# Altium integrated library Infineon_Power_Supply_Voltage_Regulator.IntLib: 346 symbols (part 1 of 16)
Pins are listed as number, name and electrical type; pins without a type are passive.

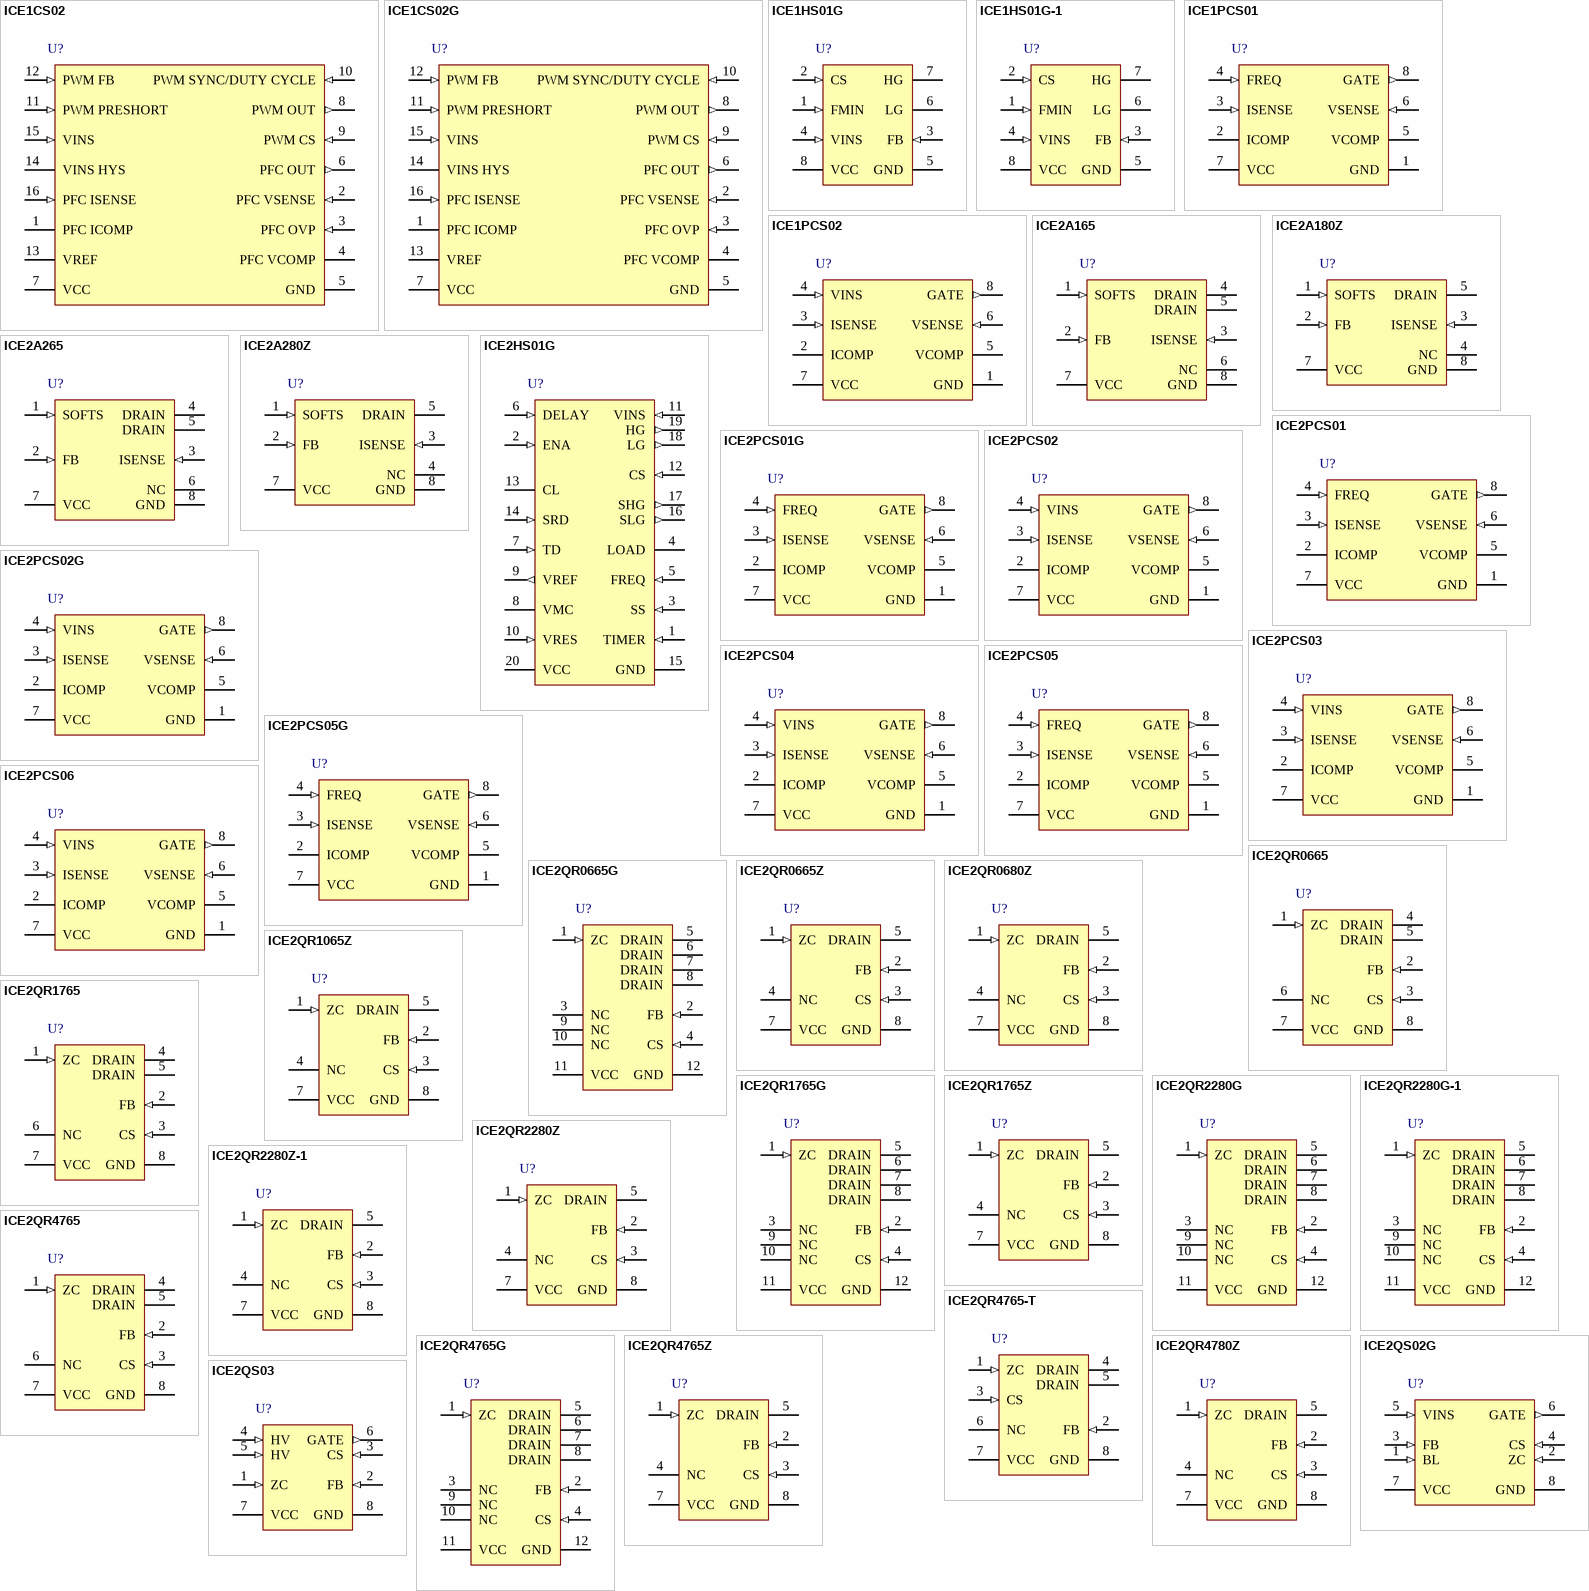
[diagram p0: symbols ICE1CS02 to ICE2QS03]

## ICE1CS02
designator U?
Combi PFC / PWM Controller, -40 to 150 degC, PG-DSO-16-17, Green; Manufacturer: Infineon; PartNumber: ICE1CS02; Green: TRUE; ICC (max): 22 mA; Output: PWM+PFC Gate Driver; VCC (max): 26 V; VCC (min): 11 V; DatasheetVersion: Rev. 1.0; PackageVersion: Jul-08; PackageReference: PG-DSO-16-17; PackageDescription: 16-Pin Plastic (Green) Dual Small Outline Package, 3.9x 9.9 mm Body, 1.27 mm Pitch; Supplier 1: Mouser; Supplier Part Number 1: 726-ICE1CS02; Supplier 2: Digi-Key; Supplier Part Number 2: ICE1CS02-ND; Halogen-free: FALSE; Mounting Technology: Surface Mount; ComponentLink1Description: Manufacturer URL; ComponentLink1URL: http://www.infineon.com/; ComponentLink2Description: Datasheet; ComponentLink2URL: http://www.infineon.com/dgdl/ICE1CS02_PFC_OVP_29JUL2008_1.0.pdf?folderId=db3a304412b407950112b4182a3d24f8&fileId=db3a30431c69a49d011c8e917a2d0494; ComponentLink3Description: Package Specification; ComponentLink3URL: http://www.infineon.com/dgdl/ICE1CS02_PFC_OVP_29JUL2008_1.0.pdf?folderId=db3a304412b407950112b4182a3d24f8&fileId=db3a30431c69a49d011c8e917a2d0494
footprint INF-PG-DSO-16-17_N (SOIC, 16-Leads, Body 9.9x3.9mm, Pitch 1.27mm, IPC Medium Density)
footprint INF-PG-DSO-16-17_L (SOIC, 16-Leads, Body 9.9x3.9mm, Pitch 1.27mm, IPC High Density)
footprint INF-PG-DSO-16-17_M (SOIC, 16-Leads, Body 9.9x3.9mm, Pitch 1.27mm, IPC Low Density)
pins: 1 PFC ICOMP "Current Loop Compensation", 2 PFC VSENSE (in) "VBUS Sense Input", 3 PFC OVP (in) "VBUS Overvoltage Sense Input", 4 PFC VCOMP "Voltage Loop Compensation", 5 GND (power) "Controller Ground", 6 PFC OUT (out) "GATE OUT", 7 VCC (power) "Controller Supply Voltage", 8 PWM OUT (out) "GATE OUT", 9 PWM CS (in) "Current Sense", 10 PWM SYNC/DUTY CYCLE (in) "Dual function pin: SYNC and Duty Cycle Setting", 11 PWM PRESHORT (in) "Adjustable Blanking Time Input", 12 PWM FB (in) "Feedback", 13 VREF (power) "5V reference voltage", 14 VINS HYS (power) "Input Voltage Hystersis", 15 VINS (in) "Input Voltage Brown out", 16 PFC ISENSE (in) "Current Sense Input"

## ICE1CS02G
designator U?
Combi PFC / PWM Controller, -40 to 150 degC, PG-DSO-16-17, Green; Manufacturer: Infineon; PartNumber: ICE1CS02G; Green: TRUE; ICC (max): 22 mA; Output: PWM+PFC Gate Driver; VCC (max): 26 V; VCC (min): 11 V; DatasheetVersion: Rev. 1.0; PackageVersion: Jul-08; PackageReference: PG-DSO-16-17; PackageDescription: 16-Pin Plastic (Green) Dual Small Outline Package, 3.9x 9.9 mm Body, 1.27 mm Pitch; Supplier 1: Mouser; Supplier Part Number 1: 726-ICE1CS02G; Supplier 2: Digi-Key; Supplier Part Number 2: ICE1CS02G-ND; Halogen-free: FALSE; Mounting Technology: Surface Mount; ComponentLink1Description: Manufacturer URL; ComponentLink1URL: http://www.infineon.com/; ComponentLink2Description: Datasheet; ComponentLink2URL: http://www.infineon.com/dgdl/ICE1CS02_PFC_OVP_29JUL2008_1.0.pdf?folderId=db3a304412b407950112b4182a3d24f8&fileId=db3a30431c69a49d011c8e917a2d0494; ComponentLink3Description: Package Specification; ComponentLink3URL: http://www.infineon.com/dgdl/ICE1CS02_PFC_OVP_29JUL2008_1.0.pdf?folderId=db3a304412b407950112b4182a3d24f8&fileId=db3a30431c69a49d011c8e917a2d0494
footprint INF-PG-DSO-16-17_N (SOIC, 16-Leads, Body 9.9x3.9mm, Pitch 1.27mm, IPC Medium Density)
footprint INF-PG-DSO-16-17_L (SOIC, 16-Leads, Body 9.9x3.9mm, Pitch 1.27mm, IPC High Density)
footprint INF-PG-DSO-16-17_M (SOIC, 16-Leads, Body 9.9x3.9mm, Pitch 1.27mm, IPC Low Density)
pins: 1 PFC ICOMP "Current Loop Compensation", 2 PFC VSENSE (in) "VBUS Sense Input", 3 PFC OVP (in) "VBUS Overvoltage Sense Input", 4 PFC VCOMP "Voltage Loop Compensation", 5 GND (power) "Controller Ground", 6 PFC OUT (out) "GATE OUT", 7 VCC (power) "Controller Supply Voltage", 8 PWM OUT (out) "GATE OUT", 9 PWM CS (in) "Current Sense", 10 PWM SYNC/DUTY CYCLE (in) "Dual function pin: SYNC and Duty Cycle Setting", 11 PWM PRESHORT (in) "Adjustable Blanking Time Input", 12 PWM FB (in) "Feedback", 13 VREF (power) "5V reference voltage", 14 VINS HYS (power) "Input Voltage Hystersis", 15 VINS (in) "Input Voltage Brown out", 16 PFC ISENSE (in) "Current Sense Input"

## ICE1HS01G
designator U?
Half-Bridge Resonant Controller, 10.2 to 18 V, -25 to 125 degC, PG-DSO-8, Reel, Green; Manufacturer: Infineon; PartNumber: ICE1HS01G; Brown out protection: TRUE; fSW (typ): 600 kHz; Group: DSO-8; IGATE(max): 1.5 A; IGATE(min): 1 A; Output: 2; VCC (max): 18 V; VCC (min): 10.2 V; DatasheetVersion: Rev. 2.0; PackageReference: PG-DSO-8_B; PackageDescription: 8-Pin Plastic (Green) Dual Small Outline Package, 4.91 x 3.96 mm Body, 1.27 mm Pitch; Supplier 1: Mouser; Supplier Part Number 1: 726-ICE1HS01G; Supplier 2: Digi-Key; Supplier Part Number 2: ICE1HS01G-ND; Green: TRUE; OCP: TRUE; OLP: TRUE; Packing: Reel; Softstart: TRUE; Mounting Technology: Surface Mount; ComponentLink1Description: Manufacturer URL; ComponentLink1URL: http://www.infineon.com/; ComponentLink2Description: Datasheet; ComponentLink2URL: http://www.infineon.com/dgdl/Datasheet_ICE1HS01G_v2.0_20090824.pdf?folderId=db3a3043156fd5730115da1adffb1528&fileId=db3a304327b8975001281ab6d8201a99; ComponentLink3Description: Package Specification; ComponentLink3URL: http://www.infineon.com/dgdl/Datasheet_ICE1HS01G_v2.0_20090824.pdf?folderId=db3a3043156fd5730115da1adffb1528&fileId=db3a304327b8975001281ab6d8201a99
footprint INF-PG-DSO-8_B_N (SOP, 8-Leads, Body 4.91x3.96mm, Pitch 1.27mm, IPC Medium Density)
footprint INF-PG-DSO-8_B_L (SOP, 8-Leads, Body 4.91x3.96mm, Pitch 1.27mm, IPC High Density)
footprint INF-PG-DSO-8_B_M (SOP, 8-Leads, Body 4.91x3.96mm, Pitch 1.27mm, IPC Low Density)
pins: 1 FMIN (in) "An external resistor is connected between this pin and the ground. The voltage of this pin is constant during operation and thus the resistance determines the current flowing out of this pin. The minimum switching frequency (See Datasheet)", 2 CS (in) "The current sense signal is fed to this pin. Inside the IC, two comparators are provided. If the voltage on CS pin is higher than the first threshold, IC will increase the switching frequency to limit the maximum output (See Datasheet)", 3 FB (in) "This pin is connected to the collector of the optocoupler. Internally, during normal operation, this pin is connected to reference voltage source with a pull-up resistor(RFB). The IC uses the voltage on this pin to adjust (See Datasheet)", 4 VINS (in) "The mains input voltage is fed to this pin via a resistive voltage divider. If the voltage on VINS pin is higher than the threshold VINSON, IC will start to operate with softstart when VCC increases beyond turn on threshold. (See Datasheet)", 5 GND (power) "IC common ground.", 6 LG (power) "Low side power MOSFET driver.", 7 HG (power) "Up side power MOSFET driver.", 8 VCC (power) "Supply voltage of the IC."

## ICE1HS01G-1
designator U?
Half-Bridge Resonant Controller, 10.2 to 18 V, -25 to 125 degC, PG-DSO-8-16, Reel, Green; Manufacturer: Infineon; PartNumber: ICE1HS01G-1; Brown out protection: TRUE; fSW (typ): 600 kHz; Group: DSO-8; IGATE(max): 1.5 A; IGATE(min): 1 A; Output: 2; VCC (max): 18 V; VCC (min): 10.2 V; DatasheetVersion: Rev. 2.0; PackageVersion: Mar-07; PackageReference: PG-DSO-8-16; PackageDescription: 8-Pin Plastic (Green) Dual Small Outline Package, 4.9 x 3.9 mm Body, 1.27 mm Pitch; OCP: TRUE; OLP: TRUE; Softstart: TRUE; Mounting Technology: Surface Mount; ComponentLink1Description: Manufacturer URL; ComponentLink1URL: http://www.infineon.com/; ComponentLink2Description: Datasheet; ComponentLink2URL: http://www.infineon.com/dgdl/Datasheet_ICE1HS01G-1_v20_20110704.pdf?folderId=db3a30431f848401011fcbf221ff04c3&fileId=db3a3043382e837301383116a3354a93; ComponentLink3Description: Package Specification; ComponentLink3URL: http://www.infineon.com/dgdl/TLE7259-2GE_DS_rev12.pdf?folderId=db3a3043163797a6011666d32a0c0de1&fileId=db3a3043163797a6011666d4dbb80de2&location=en.Products.Automotive_ICs.Automotive_Transceivers.LIN_Transceivers.DATASHEET.TLE7259-2GE_DS_rev12.pdf
footprint INF-PG-DSO-8-16_N (SOP, 8-Leads, Body 4.9x3.9mm, Pitch 1.27mm, IPC Medium Density)
footprint INF-PG-DSO-8-16_L (SOP, 8-Leads, Body 4.9x3.9mm, Pitch 1.27mm, IPC High Density)
footprint INF-PG-DSO-8-16_M (SOP, 8-Leads, Body 4.9x3.9mm, Pitch 1.27mm, IPC Low Density)
pins: 1 FMIN (in) "Minimum switching frequency", 2 CS (in) "Current sense", 3 FB (in) "Feedback voltage", 4 VINS (in) "Input voltage sense", 5 GND (power) "IC ground", 6 LG (power) "Low side gate drive", 7 HG (power) "High side gate drive", 8 VCC (power) "IC power supply"

## ICE1PCS01
designator U?
Standalone Power Factor Correction (PFC) Controller in Continuous Conduction Mode (CCM), -40 to 125 degC, PG-DIP-8-4, Tube, Green; Manufacturer: Infineon; PartNumber: ICE1PCS01; Green: TRUE; ICC (max): 22.5 mA; IQ (max): -1.5 A / 1.5 A; Output: MOSFET Gate Driver; VCC (max): 21 V; VCC (min): 10.2 V; DatasheetVersion: Rev. 1.3; PackageVersion: Jul-07; PackageReference: PG-DIP-8-4; PackageDescription: 8-Pin Plastic (Green) Dual In-Line Package, 9.52 x 6.35 mm Body, 2.54 mm Pitch; Supplier 1: Mouser; Supplier Part Number 1: 726-ICE1PCS01; Supplier 2: Digi-Key; Supplier Part Number 2: ICE1PCS01-ND; Halogen-free: FALSE; Packing: Tube; Mounting Technology: Through Hole; ComponentLink1Description: Manufacturer URL; ComponentLink1URL: http://www.infineon.com/; ComponentLink2Description: Datasheet; ComponentLink2URL: http://www.infineon.com/dgdl/DS+ICE1PCS01_v1.3+Feb+2007.pdf?folderId=db3a304412b407950112b4182a3d24f8&fileId=db3a304412b407950112b427c6f13cc7; ComponentLink3Description: Package Specification; ComponentLink3URL: http://www.infineon.com/dgdl/DS+ICE1PCS01_v1.3+Feb+2007.pdf?folderId=db3a304412b407950112b4182a3d24f8&fileId=db3a304412b407950112b427c6f13cc7
footprint INF-PG-DIP-8-4 (DIP, 8-Leads, Body 9.52x6.35mm, Pitch 2.54mm)
pins: 1 GND (power) "IC Ground", 2 ICOMP "Current Loop Compensation", 3 ISENSE (in) "Current Sense Input", 4 FREQ (in) "Switching Frequency Setting", 5 VCOMP "Voltage Loop Compensation", 6 VSENSE (in) "VOUT Sense (Feedback) Input", 7 VCC (power) "IC Supply Voltage", 8 GATE (out) "Gate Drive Output"

## ICE1PCS02
designator U?
Standalone Power Factor Correction (PFC) Controller in Continuous Conduction Mode (CCM) with Input Brown-Out Protection, -40 to 125 degC, PG-DIP-8-4, Tube, Green; Manufacturer: Infineon; PartNumber: ICE1PCS02; Green: TRUE; ICC (max): 16.3 mA; IQ (max): -1.5 A / 1.5 A; Output: MOSFET Gate Driver; VCC (max): 21 V; VCC (min): 10.2 V; DatasheetVersion: Rev. 1.2; PackageVersion: Jul-07; PackageReference: PG-DIP-8-4; PackageDescription: 8-Pin Plastic (Green) Dual In-Line Package, 9.52 x 6.35 mm Body, 2.54 mm Pitch; Supplier 1: Mouser; Supplier Part Number 1: 726-ICE1PCS02; Supplier 2: Digi-Key; Supplier Part Number 2: ICE1PCS02-ND; Halogen-free: FALSE; Packing: Tube; Mounting Technology: Through Hole; ComponentLink1Description: Manufacturer URL; ComponentLink1URL: http://www.infineon.com/; ComponentLink2Description: Datasheet; ComponentLink2URL: http://www.infineon.com/dgdl/DS+ICE1PCS02_v1.2+Feb+2007.pdf?folderId=db3a304412b407950112b408e8c90004&fileId=db3a304412b407950112b427c9283ccb; ComponentLink3Description: Package Specification; ComponentLink3URL: http://www.infineon.com/dgdl/DS+ICE1PCS01_v1.3+Feb+2007.pdf?folderId=db3a304412b407950112b4182a3d24f8&fileId=db3a304412b407950112b427c6f13cc7
footprint INF-PG-DIP-8-4 (DIP, 8-Leads, Body 9.52x6.35mm, Pitch 2.54mm)
pins: 1 GND (power) "IC Ground", 2 ICOMP "Current Loop Compensation", 3 ISENSE (in) "Current Sense Input", 4 VINS (in) "Brown-out Sense Input", 5 VCOMP "Voltage Loop Compensation", 6 VSENSE (in) "VOUT Sense (Feedback) Input", 7 VCC (power) "IC Supply Voltage", 8 GATE (out) "Gate Drive Output"

## ICE2A165
designator U?
Off-Line SMPS Current Mode Controller with Integrated 650 V CoolMOS(TM), -25 to 130 degC, PG-DIP-8, Tube, Green; Manufacturer: Infineon; PartNumber: ICE2A165; ESD Protection (max): 2 kV; Frequency ( f ) Range: 21.5 to 100 kHz; Green: TRUE; Green Product: Lead Free; ICC (typ): 6.5 mA; PIN (max): 18 W; RthJA (max): 90 K/W; tf (typ): 30 ns; VCC (max): 21 V; VCC (min): 8.5 V; VDS (max): 650 V; DatasheetVersion: Rev. 2.10a; PackageVersion: Rev. 02, 05/2012; PackageReference: PG-DIP-8_A; PackageDescription: 8-Pin Plastic (Green) Dual In-Line Package, 9.44 x 6.35 mm Body, 2.54 mm Pitch; Supplier 1: Digi-Key; Supplier Part Number 1: ICE2A165IN-ND; Supplier 2: Mouser; Supplier Part Number 2: 726-ICE2A165; Halogen-free: TRUE; Mounting: THT; Packing: Tube; tr (typ): 30 ns; Mounting Technology: Through Hole; ComponentLink1Description: Manufacturer URL; ComponentLink1URL: http://www.infineon.com/; ComponentLink2Description: Datasheet; ComponentLink2URL: http://www.infineon.com/dgdl/Infineon-ICE2xxx-DS-v2.10a-en.pdf?folderId=db3a304412b407950112b4182a3d24f8&fileId=db3a304412b407950112b418cbe626ac; ComponentLink3Description: Package Specification; ComponentLink3URL: http://www.infineon.com/dgdl/Infineon-ICE2xxx-DS-v2.10a-en.pdf?folderId=db3a304412b407950112b4182a3d24f8&fileId=db3a304412b407950112b418cbe626ac
footprint INF-PG-DIP-8_A (DIP, 8-Leads, Body 9.435x7.875mm, Pitch 2.54mm)
pins: 1 SOFTS (in) "Soft-Start", 2 FB (in) "Feedback", 3 ISENSE (in) "Controller Current Sense Input, CoolMOS(TM) Source Output", 4 DRAIN (power) "650V/800V CoolMOS(TM) Drain", 5 DRAIN (power) "650V/800V CoolMOS(TM) Drain", 6 NC "Not connected", 7 VCC (power) "Controller Supply Voltage", 8 GND (power) "Controller Ground"

## ICE2A180Z
designator U?
Off-Line SMPS Current Mode Controller with Integrated 800 V CoolMOS(TM), -25 to 130 degC, PG-DIP-7, Tube, Green; Manufacturer: Infineon; PartNumber: ICE2A180Z; ESD Protection (max): 2 kV; Frequency ( f ) Range: 21.5 to 100 kHz; Green: TRUE; Green Product: Lead Free; ICC (typ): 6.5 mA; PIN (max): 17 W; RthJA (max): 96 K/W; tf (typ): 30 ns; VCC (max): 21 V; VCC (min): 8.5 V; VDS (max): 800 V; DatasheetVersion: Rev. 2.10a; PackageVersion: Rev. 02, 07/2011; PackageReference: PG-DIP-7-1; PackageDescription: 7-Pin Plastic (Green) Dual In-Line Package, 9.44 x 6.35 mm Body, 2.54 mm Pitch; Supplier 1: Digi-Key; Supplier Part Number 1: ICE2A180ZIN-ND; Supplier 2: Farnell; Supplier Part Number 2: 1095674; Supplier 3: Mouser; Supplier Part Number 3: 726-ICE2A180Z; Halogen-free: TRUE; Mounting: THT; Packing: Tube; tr (typ): 30 ns; Mounting Technology: Through Hole; ComponentLink1Description: Manufacturer URL; ComponentLink1URL: http://www.infineon.com/; ComponentLink2Description: Datasheet; ComponentLink2URL: http://www.infineon.com/dgdl/Infineon-ICE2xxx-DS-v2.10a-en.pdf?folderId=db3a304412b407950112b4182a3d24f8&fileId=db3a304412b407950112b418cbe626ac; ComponentLink3Description: Package Specification; ComponentLink3URL: http://www.infineon.com/dgdl/Datasheet_ICE2QR4765Z_V21_20110830.pdf?folderId=db3a304412b407950112b408e8c90004&fileId=db3a304330046413013048a5435f51d2
footprint INF-PG-DIP-7-1_A (DIP, 7-Leads, Body 9.44x6.35mm, Pitch 2.54mm)
pins: 1 SOFTS (in) "Soft-Start", 2 FB (in) "Feedback", 3 ISENSE (in) "Controller Current Sense Input, CoolMOS(TM) Source Output", 4 NC "Not connected", 5 DRAIN (power) "650V/800V CoolMOS(TM) Drain", 7 VCC (power) "Controller Supply Voltage", 8 GND (power) "Controller Ground"

## ICE2A265
designator U?
Off-Line SMPS Current Mode Controller with Integrated 650 V CoolMOS(TM), -25 to 130 degC, PG-DIP-8, Tube, Green; Manufacturer: Infineon; PartNumber: ICE2A265; ESD Protection (max): 2 kV; Frequency ( f ) Range: 21.5 to 100 kHz; Green: TRUE; Green Product: Lead Free; ICC (typ): 6.7 mA; PIN (max): 32 W; RthJA (max): 90 K/W; tf (typ): 30 ns; VCC (max): 21 V; VCC (min): 8.5 V; VDS (max): 650 V; DatasheetVersion: Rev. 2.10a; PackageVersion: Rev. 02, 05/2012; PackageReference: PG-DIP-8_A; PackageDescription: 8-Pin Plastic (Green) Dual In-Line Package, 9.44 x 6.35 mm Body, 2.54 mm Pitch; Supplier 1: Digi-Key; Supplier Part Number 1: ICE2A265IN-ND; Supplier 2: Farnell; Supplier Part Number 2: 2215575; Supplier 3: Newark; Supplier Part Number 3: 47W3444; Supplier 4: Mouser; Supplier Part Number 4: 726-ICE2A265; Halogen-free: TRUE; Mounting: THT; Packing: Tube; tr (typ): 30 ns; Mounting Technology: Through Hole; ComponentLink1Description: Manufacturer URL; ComponentLink1URL: http://www.infineon.com/; ComponentLink2Description: Datasheet; ComponentLink2URL: http://www.infineon.com/dgdl/Infineon-ICE2xxx-DS-v2.10a-en.pdf?folderId=db3a304412b407950112b4182a3d24f8&fileId=db3a304412b407950112b418cbe626ac; ComponentLink3Description: Package Specification; ComponentLink3URL: http://www.infineon.com/dgdl/Infineon-ICE2xxx-DS-v2.10a-en.pdf?folderId=db3a304412b407950112b4182a3d24f8&fileId=db3a304412b407950112b418cbe626ac
footprint INF-PG-DIP-8_A (DIP, 8-Leads, Body 9.435x7.875mm, Pitch 2.54mm)
pins: 1 SOFTS (in) "Soft-Start", 2 FB (in) "Feedback", 3 ISENSE (in) "Controller Current Sense Input, CoolMOS(TM) Source Output", 4 DRAIN (power) "650V/800V CoolMOS(TM) Drain", 5 DRAIN (power) "650V/800V CoolMOS(TM) Drain", 6 NC "Not connected", 7 VCC (power) "Controller Supply Voltage", 8 GND (power) "Controller Ground"

## ICE2A280Z
designator U?
Off-Line SMPS Current Mode Controller with Integrated 800 V CoolMOS(TM), -25 to 130 degC, PG-DIP-7, Tube, Green; Manufacturer: Infineon; PartNumber: ICE2A280Z; ESD Protection (max): 2 kV; Frequency ( f ) Range: 21.5 to 100 kHz; Green: TRUE; Green Product: Lead Free; ICC (typ): 7.7 mA; PIN (max): 31 W; RthJA (max): 96 K/W; tf (typ): 30 ns; VCC (max): 21 V; VCC (min): 8.5 V; VDS (max): 800 V; DatasheetVersion: Rev. 2.10a; PackageVersion: Rev. 02, 07/2011; PackageReference: PG-DIP-7-1; PackageDescription: 7-Pin Plastic (Green) Dual In-Line Package, 9.44 x 6.35 mm Body, 2.54 mm Pitch; Supplier 1: Digi-Key; Supplier Part Number 1: ICE2A280ZIN-ND; Supplier 2: Farnell; Supplier Part Number 2: 1095676; Supplier 3: Newark; Supplier Part Number 3: 92K0552; Supplier 4: Mouser; Supplier Part Number 4: 726-ICE2A280Z; Halogen-free: TRUE; Mounting: THT; Packing: Tube; tr (typ): 30 ns; Mounting Technology: Through Hole; ComponentLink1Description: Manufacturer URL; ComponentLink1URL: http://www.infineon.com/; ComponentLink2Description: Datasheet; ComponentLink2URL: http://www.infineon.com/dgdl/Infineon-ICE2xxx-DS-v2.10a-en.pdf?folderId=db3a304412b407950112b4182a3d24f8&fileId=db3a304412b407950112b418cbe626ac; ComponentLink3Description: Package Specification; ComponentLink3URL: http://www.infineon.com/dgdl/Datasheet_ICE2QR4765Z_V21_20110830.pdf?folderId=db3a304412b407950112b408e8c90004&fileId=db3a304330046413013048a5435f51d2
footprint INF-PG-DIP-7-1_A (DIP, 7-Leads, Body 9.44x6.35mm, Pitch 2.54mm)
pins: 1 SOFTS (in) "Soft-Start", 2 FB (in) "Feedback", 3 ISENSE (in) "Controller Current Sense Input, CoolMOS(TM) Source Output", 4 NC "Not connected", 5 DRAIN (power) "650V/800V CoolMOS(TM) Drain", 7 VCC (power) "Controller Supply Voltage", 8 GND (power) "Controller Ground"

## ICE2HS01G
designator U?
High Performance Resonant Mode Controller, 11 to 18 V, -25 to 125 degC, PG-DSO-20-45, Reel, Green; Manufacturer: Infineon; PartNumber: ICE2HS01G; Brown out protection: TRUE; Group: DSO-20; Output: 4; VCC (max): 18 V; VCC (min): 11 V; DatasheetVersion: Rev. 2.1; PackageVersion: Apr-11; PackageReference: PG-DSO-20-45; PackageDescription: 20-Pin Plastic (Green) Dual Small Outline Package, 12.7 x 7.5 mm Body, 1.27 mm Pitch; Supplier 1: Mouser; Supplier Part Number 1: 726-ICE2HS01G; Green: TRUE; Halogen-free: available; OCP: TRUE; OLP: TRUE; Softstart: TRUE; Mounting Technology: Surface Mount; ComponentLink1Description: Manufacturer URL; ComponentLink1URL: http://www.infineon.com/; ComponentLink2Description: Datasheet; ComponentLink2URL: http://www.infineon.com/dgdl/ICE2HS01G_PDS_v2.1_20110524_Public.pdf?folderId=db3a304412b407950112b408e8c90004&fileId=db3a30432a40a650012a458289712b4c; ComponentLink3Description: Package Specification; ComponentLink3URL: http://www.infineon.com/dgdl/TLE7235SE_DS_11.pdf?folderId=db3a3043163797a6011667aa084c0e01&fileId=db3a3043284aacd8012887f07d4d7fef&sId=db3a30443d67b5ca013d7d7458a72269
footprint INF-PG-DSO-20-45_N (SOP, 20-Leads, Body 12.7x7.5mm, Pitch 1.27mm, IPC Medium Density)
footprint INF-PG-DSO-20-45_L (SOP, 20-Leads, Body 12.7x7.5mm, Pitch 1.27mm, IPC High Density)
footprint INF-PG-DSO-20-45_M (SOP, 20-Leads, Body 12.7x7.5mm, Pitch 1.27mm, IPC Low Density)
pins: 1 TIMER (in) "Over-load blanking time and autorestart time", 2 ENA (in) "Enable", 3 SS (in) "Softstart", 4 LOAD "Load detection", 5 FREQ (in) "Frequency of operation", 6 DELAY (in) "Advance delay time setting", 7 TD (in) "Primary dead time setting", 8 VMC (power) "Voltage level for entering and leaving missing cycle mode", 9 VREF (out) "Reference voltage output", 10 VRES (in) "Resonant voltage setting", 11 VINS (in) "Input bus voltage sense", 12 CS (in) "Current sense", 13 CL "Currsnt sense output level", 14 SRD (in) "Sychronous rectification on duration and disable function", 15 GND (power) "IC ground", 16 SLG (out) "Gate logic for secondary low side switch", 17 SHG (out) "Gate logic for secondary high side switch", 18 LG (out) "Gate logic for primary low side switch", 19 HG (out) "Gate logic for primary highside switch", 20 VCC (power) "IC power supply"

## ICE2PCS01
designator U?
Standalone Power Factor Correction (PFC) Controller in Continuous Conduction Mode (CCM), 11 to 26 V, -1.5 A / 2 A Iq, -40 to 125 degC, PG-DIP-8, Tube, Green; Manufacturer: Infineon; PartNumber: ICE2PCS01; Frequency ( f ) Range: 50 kHz - 250kHz; Green: TRUE; Group: DIP-8; ICC (max): 20 mA; Iq (typ): 300 uA; Output: MOSFET Gate Driver; VCC (max): 26 V; VCC (min): 11 V; DatasheetVersion: Rev. 2.3; PackageVersion: Rev. 02, 05/2012; PackageReference: PG-DIP-8; PackageDescription: 8-Pin Plastic (Green) Dual In-Line Package, 9.44 x 6.35 mm Body, 2.54 mm Pitch; Supplier 1: Mouser; Supplier Part Number 1: 726-ICE2PCS01; Supplier 2: Digi-Key; Supplier Part Number 2: ICE2PCS01-ND; IQ (max): -1.5 A / 2 A; Packing: Tube; Mounting Technology: Through Hole; ComponentLink1Description: Manufacturer URL; ComponentLink1URL: http://www.infineon.com/; ComponentLink2Description: Datasheet; ComponentLink2URL: http://www.infineon.com/dgdl/ProductDatasheetICE2PCS01_v2_3+Mar+2010.pdf?folderId=db3a304412b407950112b4182a3d24f8&fileId=db3a304412b407950112b427caa43ccf; ComponentLink3Description: Package Specification; ComponentLink3URL: http://www.infineon.com/dgdl/Datasheet_CoolSET-F3_v22_30Aug2011.pdf?folderId=db3a304412b407950112b4182a3d24f8&fileId=db3a304412b407950112b428f6ba3f30
footprint INF-PG-DIP-8_A (DIP, 8-Leads, Body 9.435x7.875mm, Pitch 2.54mm)
pins: 1 GND (power) "IC Ground", 2 ICOMP "Current Loop Compensation", 3 ISENSE (in) "Current Sense Input", 4 FREQ (in) "Switching Frequency Setting", 5 VCOMP "Voltage Loop Compensation", 6 VSENSE (in) "VOUT Sense (Feedback) Input", 7 VCC (power) "IC Supply Voltage", 8 GATE (out) "Gate Drive Output"

## ICE2PCS01G
designator U?
Standalone Power Factor Correction (PFC) Controller in Continuous Conduction Mode (CCM), 11 to 26 V, -1.5 A / 2 A Iq, -40 to 125 degC, PG-DSO-8-16, Reel, Green; Manufacturer: Infineon; PartNumber: ICE2PCS01G; Frequency ( f ) Range: 50kHz - 250kHz; Green: TRUE; Group: DSO-8; ICC (max): 20 mA; Iq (typ): 300 uA; Output: MOSFET Gate Driver; VCC (max): 26 V; VCC (min): 11 V; DatasheetVersion: Rev. 2.3; PackageVersion: Mar-07; PackageReference: PG-DSO-8-16; PackageDescription: 8-Pin Plastic (Green) Dual Small Outline Package, 4.9 x 3.9 mm Body, 1.27 mm Pitch; Supplier 1: Mouser; Supplier Part Number 1: 726-ICE2PCS01G; Supplier 2: Newark; Supplier Part Number 2: 47W3446; Supplier 3: Farnell; Supplier Part Number 3: 2215576; Supplier 4: Digi-Key; Supplier Part Number 4: ICE2PCS01GTR-ND; Supplier 5: Digi-Key; Supplier Part Number 5: ICE2PCS01GCT-ND; Supplier 6: Digi-Key; Supplier Part Number 6: ICE2PCS01GDKR-ND; Halogen-free: TRUE; IQ (max): -1.5 A / 2 A; Mounting Technology: Surface Mount; ComponentLink1Description: Manufacturer URL; ComponentLink1URL: http://www.infineon.com/; ComponentLink2Description: Datasheet; ComponentLink2URL: http://www.infineon.com/dgdl/ProductDatasheetICE2PCS01_v2_3+Mar+2010.pdf?folderId=db3a304412b407950112b4182a3d24f8&fileId=db3a304412b407950112b427caa43ccf; ComponentLink3Description: Package Specification; ComponentLink3URL: http://www.infineon.com/dgdl/TLE7259-2GE_DS_rev12.pdf?folderId=db3a3043163797a6011666d32a0c0de1&fileId=db3a3043163797a6011666d4dbb80de2&location=en.Products.Automotive_ICs.Automotive_Transceivers.LIN_Transceivers.DATASHEET.TLE7259-2GE_DS_rev12.pdf
footprint INF-PG-DSO-8-16_N (SOP, 8-Leads, Body 4.9x3.9mm, Pitch 1.27mm, IPC Medium Density)
footprint INF-PG-DSO-8-16_L (SOP, 8-Leads, Body 4.9x3.9mm, Pitch 1.27mm, IPC High Density)
footprint INF-PG-DSO-8-16_M (SOP, 8-Leads, Body 4.9x3.9mm, Pitch 1.27mm, IPC Low Density)
pins: 1 GND (power) "IC Ground", 2 ICOMP "Current Loop Compensation", 3 ISENSE (in) "Current Sense Input", 4 FREQ (in) "Switching Frequency Setting", 5 VCOMP "Voltage Loop Compensation", 6 VSENSE (in) "VOUT Sense (Feedback) Input", 7 VCC (power) "IC Supply Voltage", 8 GATE (out) "Gate Drive Output"

## ICE2PCS02
designator U?
Standalone Power Factor Correction (PFC) Controller in Continuous Conduction Mode (CCM) with Input Brown-Out Protection, 11 to 26 V, -1.5 A / 2 A Iq, -40 to 125 degC, PG-DIP-8, Tube, Green; Manufacturer: Infineon; PartNumber: ICE2PCS02; Frequency ( f ) Range: 65kHz; Green: TRUE; Group: DIP-8; ICC (max): 13 mA; Iq (typ): 300 uA; Output: MOSFET Gate Driver; VCC (max): 26 V; VCC (min): 11 V; DatasheetVersion: Rev. 2.4; PackageVersion: Rev. 02, 05/2012; PackageReference: PG-DIP-8; PackageDescription: 8-Pin Plastic (Green) Dual In-Line Package, 9.44 x 6.35 mm Body, 2.54 mm Pitch; Supplier 1: Mouser; Supplier Part Number 1: 726-ICE2PCS02; Supplier 2: Digi-Key; Supplier Part Number 2: ICE2PCS02-ND; IQ (max): -1.5 A / 2 A; Packing: Tube; Mounting Technology: Through Hole; ComponentLink1Description: Manufacturer URL; ComponentLink1URL: http://www.infineon.com/; ComponentLink2Description: Datasheet; ComponentLink2URL: http://www.infineon.com/dgdl/ProductDatasheetICE2PCS02_v2.4+Mar2010.pdf?folderId=db3a304412b407950112b4182a3d24f8&fileId=db3a304412b407950112b427cc3c3cdc; ComponentLink3Description: Package Specification; ComponentLink3URL: http://www.infineon.com/dgdl/Datasheet_CoolSET-F3_v22_30Aug2011.pdf?folderId=db3a304412b407950112b4182a3d24f8&fileId=db3a304412b407950112b428f6ba3f30
footprint INF-PG-DIP-8_A (DIP, 8-Leads, Body 9.435x7.875mm, Pitch 2.54mm)
pins: 1 GND (power) "IC Ground", 2 ICOMP "Current Loop Compensation", 3 ISENSE (in) "Current Sense Input", 4 VINS (in) "Brown-out Sense Input", 5 VCOMP "Voltage Loop Compensation", 6 VSENSE (in) "VOUT Sense (Feedback) Input", 7 VCC (power) "IC Supply Voltage", 8 GATE (out) "Gate Drive Output"

## ICE2PCS02G
designator U?
Standalone Power Factor Correction (PFC) Controller in Continuous Conduction Mode (CCM), 11 to 26 V, -1.5 A / 2 A Iq, -40 to 125 degC, PG-DSO-8-16, Reel, Green; Manufacturer: Infineon; PartNumber: ICE2PCS02G; Frequency ( f ) Range: 65kHz; Green: TRUE; Group: DSO-8; ICC (max): 13 mA; Iq (typ): 300 uA; Output: MOSFET Gate Driver; VCC (max): 26 V; VCC (min): 11 V; DatasheetVersion: Rev. 2.3; PackageVersion: Mar-07; PackageReference: PG-DSO-8-16; PackageDescription: 8-Pin Plastic (Green) Dual Small Outline Package, 4.9 x 3.9 mm Body, 1.27 mm Pitch; Supplier 1: Mouser; Supplier Part Number 1: 726-ICE2PCS02G; Supplier 2: Digi-Key; Supplier Part Number 2: ICE2PCS02GTR-ND; Supplier 3: Digi-Key; Supplier Part Number 3: ICE2PCS02GCT-ND; Supplier 4: Digi-Key; Supplier Part Number 4: ICE2PCS02GDKR-ND; Halogen-free: TRUE; IQ (max): -1.5 A / 2 A; Mounting Technology: Surface Mount; ComponentLink1Description: Manufacturer URL; ComponentLink1URL: http://www.infineon.com/; ComponentLink2Description: Datasheet; ComponentLink2URL: http://www.infineon.com/dgdl/ProductDatasheetICE2PCS01_v2_3+Mar+2010.pdf?folderId=db3a304412b407950112b4182a3d24f8&fileId=db3a304412b407950112b427caa43ccf; ComponentLink3Description: Package Specification; ComponentLink3URL: http://www.infineon.com/dgdl/TLE7259-2GE_DS_rev12.pdf?folderId=db3a3043163797a6011666d32a0c0de1&fileId=db3a3043163797a6011666d4dbb80de2&location=en.Products.Automotive_ICs.Automotive_Transceivers.LIN_Transceivers.DATASHEET.TLE7259-2GE_DS_rev12.pdf
footprint INF-PG-DSO-8-16_N (SOP, 8-Leads, Body 4.9x3.9mm, Pitch 1.27mm, IPC Medium Density)
footprint INF-PG-DSO-8-16_L (SOP, 8-Leads, Body 4.9x3.9mm, Pitch 1.27mm, IPC High Density)
footprint INF-PG-DSO-8-16_M (SOP, 8-Leads, Body 4.9x3.9mm, Pitch 1.27mm, IPC Low Density)
pins: 1 GND (power) "IC Ground", 2 ICOMP "Current Loop Compensation", 3 ISENSE (in) "Current Sense Input", 4 VINS (in) "Brown-out Sense Input", 5 VCOMP "Voltage Loop Compensation", 6 VSENSE (in) "VOUT Sense (Feedback) Input", 7 VCC (power) "IC Supply Voltage", 8 GATE (out) "Gate Drive Output"

## ICE2PCS03
designator U?
Standalone Power Factor Correction (PFC) Controller in Continuous Conduction Mode (CCM) with Input Brown-Out Protection, 11 to 25 V, -40 to 125 degC, PG-DIP-8, Tube, Green; Manufacturer: Infineon; PartNumber: ICE2PCS03; Green: TRUE; Group: DIP-8; ICC (max): 16 mA; Output: MOSFET Gate Driver; VCC (max): 25 V; VCC (min): 11 V; DatasheetVersion: Rev. 2.1; PackageVersion: Rev. 02, 05/2012; PackageReference: PG-DIP-8; PackageDescription: 8-Pin Plastic (Green) Dual In-Line Package, 9.44 x 6.35 mm Body, 2.54 mm Pitch; Supplier 1: Mouser; Supplier Part Number 1: 726-ICE2PCS03; Supplier 2: Digi-Key; Supplier Part Number 2: ICE2PCS03-ND; Packing: Tube; Mounting Technology: Through Hole; ComponentLink1Description: Manufacturer URL; ComponentLink1URL: http://www.infineon.com/; ComponentLink2Description: Datasheet; ComponentLink2URL: http://www.infineon.com/dgdl/ProductDatasheetICE2PCS03_v2.122Mar2010.pdf?folderId=db3a304412b407950112b4182a3d24f8&fileId=db3a30431936bc4b01193b45457e52a1; ComponentLink3Description: Package Specification; ComponentLink3URL: http://www.infineon.com/dgdl/Datasheet_CoolSET-F3_v22_30Aug2011.pdf?folderId=db3a304412b407950112b4182a3d24f8&fileId=db3a304412b407950112b428f6ba3f30
footprint INF-PG-DIP-8_A (DIP, 8-Leads, Body 9.435x7.875mm, Pitch 2.54mm)
pins: 1 GND (power) "IC Ground", 2 ICOMP "Current Loop Compensation", 3 ISENSE (in) "Current Sense Input", 4 VINS (in) "Brown-out Sense Input", 5 VCOMP "Voltage Loop Compensation", 6 VSENSE (in) "VOUT Sense (Feedback) Input", 7 VCC (power) "IC Supply Voltage", 8 GATE (out) "Gate Drive Output"

## ICE2PCS04
designator U?
Standalone Power Factor Correction (PFC) Controller in Continuous Conduction Mode (CCM) with Input Brown-Out Protection, 11 to 25 V, -40 to 125 degC, PG-DIP-8, Tube, Green; Manufacturer: Infineon; PartNumber: ICE2PCS04; Green: TRUE; Group: DIP-8; ICC (max): 20 mA; Output: MOSFET Gate Driver; VCC (max): 25 V; VCC (min): 11 V; DatasheetVersion: Rev. 2.1; PackageVersion: Rev. 02, 05/2012; PackageReference: PG-DIP-8; PackageDescription: 8-Pin Plastic (Green) Dual In-Line Package, 9.44 x 6.35 mm Body, 2.54 mm Pitch; Supplier 1: Mouser; Supplier Part Number 1: 726-ICE2PCS04; Supplier 2: Digi-Key; Supplier Part Number 2: ICE2PCS04-ND; Packing: Tube; Mounting Technology: Through Hole; ComponentLink1Description: Manufacturer URL; ComponentLink1URL: http://www.infineon.com/; ComponentLink2Description: Datasheet; ComponentLink2URL: http://www.infineon.com/dgdl/ProductDatasheetICE2PCS04_v2.1_22Mar2010.pdf?folderId=db3a304412b407950112b4182a3d24f8&fileId=db3a30431936bc4b01193b4e467952a9; ComponentLink3Description: Package Specification; ComponentLink3URL: http://www.infineon.com/dgdl/Datasheet_CoolSET-F3_v22_30Aug2011.pdf?folderId=db3a304412b407950112b4182a3d24f8&fileId=db3a304412b407950112b428f6ba3f30
footprint INF-PG-DIP-8_A (DIP, 8-Leads, Body 9.435x7.875mm, Pitch 2.54mm)
pins: 1 GND (power) "IC Ground", 2 ICOMP "Current Loop Compensation", 3 ISENSE (in) "Current Sense Input", 4 VINS (in) "Brown-out Sense Input", 5 VCOMP "Voltage Loop Compensation", 6 VSENSE (in) "VOUT Sense (Feedback) Input", 7 VCC (power) "IC Supply Voltage", 8 GATE (out) "Gate Drive Output"

## ICE2PCS05
designator U?
Standalone Power Factor Correction (PFC) Controller in Continuous Conduction Mode (CCM), 11 to 25 V, -1.5 A / 2 A Iq, -40 to 125 degC, PG-DIP-8, Tube, Green; Manufacturer: Infineon; PartNumber: ICE2PCS05; Frequency ( f ) Range: 20kHz - 250kHz; Green: TRUE; Group: DIP-8; ICC (max): 20 mA; Iq (typ): 300 uA; Output: MOSFET Gate Driver; VCC (max): 25 V; VCC (min): 11 V; DatasheetVersion: Rev. 1.2; PackageVersion: Rev. 02, 05/2012; PackageReference: PG-DIP-8; PackageDescription: 8-Pin Plastic (Green) Dual In-Line Package, 9.44 x 6.35 mm Body, 2.54 mm Pitch; Supplier 1: Mouser; Supplier Part Number 1: 726-ICE2PCS05; IQ (max): -1.5 A / 2 A; Packing: Tube; Mounting Technology: Through Hole; ComponentLink1Description: Manufacturer URL; ComponentLink1URL: http://www.infineon.com/; ComponentLink2Description: Datasheet; ComponentLink2URL: http://www.infineon.com/dgdl/ProductDatasheetICE2PCS05+22Mar2010.pdf?folderId=db3a304412b407950112b4182a3d24f8&fileId=db3a30431c69a49d011cdfb46a834373; ComponentLink3Description: Package Specification; ComponentLink3URL: http://www.infineon.com/dgdl/Datasheet_CoolSET-F3_v22_30Aug2011.pdf?folderId=db3a304412b407950112b4182a3d24f8&fileId=db3a304412b407950112b428f6ba3f30
footprint INF-PG-DIP-8_A (DIP, 8-Leads, Body 9.435x7.875mm, Pitch 2.54mm)
pins: 1 GND (power) "IC Ground", 2 ICOMP "Current Loop Compensation", 3 ISENSE (in) "Current Sense Input", 4 FREQ (in) "Switching Frequency Setting", 5 VCOMP "Voltage Loop Compensation", 6 VSENSE (in) "VOUT Sense (Feedback) Input", 7 VCC (power) "IC Supply Voltage", 8 GATE (out) "Gate Drive Output"

## ICE2PCS05G
designator U?
Standalone Power Factor Correction (PFC) Controller in Continuous Conduction Mode (CCM) with Input Brown-Out Protection, 11 to 25 V, -1.5 mA / 2 mA Iq, -40 to 125 degC, PG-DSO-8, Reel, Green; Manufacturer: Infineon; PartNumber: ICE2PCS05G; Frequency ( f ) Range: 20kHz - 250kHz; Green: TRUE; Group: DSO-8; ICC (max): 20 mA; Iq (typ): 300 uA; Output: MOSFET Gate Driver; VCC (max): 25 V; VCC (min): 11 V; DatasheetVersion: Rev. 2.4; PackageVersion: Rev. 02, 01/2008; PackageReference: PG-DSO-8_A; PackageDescription: 8-Pin Plastic (Green) Dual Small Outline Package, 4.9 x 3.9 mm Body, 1.27 mm Pitch; Supplier 1: Mouser; Supplier Part Number 1: 726-ICE2PCS05G; Supplier 2: Digi-Key; Supplier Part Number 2: ICE2PCS05G-ND; Halogen-free: TRUE; IQ (max): -1.5 mA / 2 mA; Packing: Reel; Mounting Technology: Surface Mount; ComponentLink1Description: Manufacturer URL; ComponentLink1URL: http://www.infineon.com/; ComponentLink2Description: Datasheet; ComponentLink2URL: http://www.infineon.com/dgdl/ProductDatasheetICE2PCS02_v2.4+Mar2010.pdf?folderId=db3a304412b407950112b4182a3d24f8&fileId=db3a304412b407950112b427cc3c3cdc; ComponentLink3Description: Package Specification; ComponentLink3URL: http://www.infineon.com/dgdl/ProductDatasheetICE2PCS05+22Mar2010.pdf?folderId=db3a304412b407950112b4182a3d24f8&fileId=db3a30431c69a49d011cdfb46a834373
footprint INF-PG-DSO-8_A_N (SOP, 8-Leads, Body 4.9x3.9mm, Pitch 1.27mm, IPC Medium Density, IPC Medium Density)
footprint INF-PG-DSO-8_A_L (SOP, 8-Leads, Body 4.9x3.9mm, Pitch 1.27mm, IPC Medium Density, IPC High Density)
footprint INF-PG-DSO-8_A_M (SOP, 8-Leads, Body 4.9x3.9mm, Pitch 1.27mm, IPC Medium Density, IPC Low Density)
pins: 1 GND (power) "IC Ground", 2 ICOMP "Current Loop Compensation", 3 ISENSE (in) "Current Sense Input", 4 FREQ (in) "Switching Frequency Setting", 5 VCOMP "Voltage Loop Compensation", 6 VSENSE (in) "VOUT Sense (Feedback) Input", 7 VCC (power) "IC Supply Voltage", 8 GATE (out) "Gate Drive Output"

## ICE2PCS06
designator U?
Standalone Power Factor Correction (PFC) Controller in Continuous Conduction Mode (CCM) with Input Brown-Out Protection, 11 to 25 V, -40 to 125 degC, PG-DIP-8, Tube, Green; Manufacturer: Infineon; PartNumber: ICE2PCS06; Green: TRUE; Group: DIP-8; ICC (max): 13 mA; VCC (max): 25 V; VCC (min): 11 V; DatasheetVersion: Rev. 1.1; PackageVersion: Rev. 02, 05/2012; PackageReference: PG-DIP-8; PackageDescription: 8-Pin Plastic (Green) Dual In-Line Package, 9.44 x 6.35 mm Body, 2.54 mm Pitch; Supplier 1: Mouser; Supplier Part Number 1: 726-ICE2PCS06; Supplier 2: Digi-Key; Supplier Part Number 2: ICE2PCS06-ND; Halogen-free: TRUE; Packing: Tube; Mounting Technology: Through Hole; ComponentLink1Description: Manufacturer URL; ComponentLink1URL: http://www.infineon.com/; ComponentLink2Description: Datasheet; ComponentLink2URL: http://www.infineon.com/dgdl/ProductDatasheetICE2PCS06_v1.1+Mar2010.pdf?folderId=db3a304412b407950112b408e8c90004&fileId=db3a3043327f13e3013285ff4ecb2e77; ComponentLink3Description: Package Specification; ComponentLink3URL: http://www.infineon.com/dgdl/Datasheet_CoolSET-F3_v22_30Aug2011.pdf?folderId=db3a304412b407950112b4182a3d24f8&fileId=db3a304412b407950112b428f6ba3f30
footprint INF-PG-DIP-8_A (DIP, 8-Leads, Body 9.435x7.875mm, Pitch 2.54mm)
pins: 1 GND (power) "IC Ground", 2 ICOMP "Current Loop Compensation", 3 ISENSE (in) "Current Sense Input", 4 VINS (in) "Brown-out Sense Input", 5 VCOMP "Voltage Loop Compensation", 6 VSENSE (in) "VOUT Sense (Feedback) Input", 7 VCC (power) "IC Supply Voltage", 8 GATE (out) "Gate Drive Output"

## ICE2QR0665
designator U?
Off-Line SMPS Quasi-Resonant PWM Controller with Integrated 650 V CoolMOS and Startup Cell, 10.5 to 25 V, -25 to 130 degC, PG-DIP-8, Tube, Green; Manufacturer: Infineon; PartNumber: ICE2QR0665; ESD Protection (max): 2 kV; Frequency ( f ) Range: Variable; Green: TRUE; Green Product: Lead Free; ICC (typ): 1.5 mA; ID (max): 2.5 A; PIN (max): 50 W; RDS (on) (typ): 0.65 Ohm; RthJA (max): 90 K/W; tf (typ): 30 ns; VCC (max): 25 V; VCC (min): 10.5 V; VDS (max): 650 V; DatasheetVersion: Rev. 2.5; PackageVersion: Rev. 02, 05/2012; PackageReference: PG-DIP-8; PackageDescription: 8-Pin Plastic (Green) Dual In-Line Package, 9.44 x 6.35 mm Body, 2.54 mm Pitch; Supplier 1: Mouser; Supplier Part Number 1: 726-ICE2QR0665; Supplier 2: Digi-Key; Supplier Part Number 2: ICE2QR0665-ND; Halogen-free: False; tr (typ): 30 ns; Mounting Technology: Through Hole; ComponentLink1Description: Manufacturer URL; ComponentLink1URL: http://www.infineon.com/; ComponentLink2Description: Datasheet; ComponentLink2URL: http://www.infineon.com/dgdl/Datasheet_ICE2QR0665_V25_20110704.pdf?folderId=db3a30431a5c32f2011a77f9c03e6cb4&fileId=db3a3043271faefd012729aa8ec44dab; ComponentLink3Description: Package Specification; ComponentLink3URL: http://www.infineon.com/dgdl/Datasheet_CoolSET-F3_v22_30Aug2011.pdf?folderId=db3a304412b407950112b4182a3d24f8&fileId=db3a304412b407950112b428f6ba3f30
footprint INF-PG-DIP-8_A (DIP, 8-Leads, Body 9.435x7.875mm, Pitch 2.54mm)
pins: 1 ZC (in) "Zero Crossing", 2 FB (in) "FeedBack", 3 CS (in) "Current Sense/650V CoolMOS(R) Source", 4 DRAIN (power) "650V CoolMOS(R) Drain", 5 DRAIN (power) "650V CoolMOS(R) Drain", 6 NC "Not connected", 7 VCC (power) "Controller Supply Voltage", 8 GND (power) "Controller Ground"

## ICE2QR0665G
designator U?
Off-Line SMPS Quasi-Resonant PWM Controller with Integrated 650 V CoolMOS and Startup Cell, 10.5 to 25 V, -25 to 130 degC, PG-DSO-16/12, Reel, Green; Manufacturer: Infineon; PartNumber: ICE2QR0665G; ESD Protection (max): 2 kV; Frequency ( f ) Range: Variable; Green: TRUE; Green Product: Lead Free; ICC (typ): 1.5 mA; ID (max): 2.5 A; PIN (max): 45 W; RDS (on) (typ): 0.65 Ohm; RthJA (max): 110 K/W; tf (typ): 30 ns; VCC (max): 25 V; VCC (min): 10.5 V; VDS (max): 650 V; DatasheetVersion: Rev. 2.0; PackageReference: PG-DSO-16_12; PackageDescription: 16-Pin Plastic (Green) Dual Small Outline Package, 9.9 x 3.9 mm Body, 1.27 mm Pitch; Supplier 1: Mouser; Supplier Part Number 1: 726-ICE2QR0665G; Halogen-free: TRUE; tr (typ): 30 ns; Mounting Technology: Surface Mount; ComponentLink1Description: Manufacturer URL; ComponentLink1URL: http://www.infineon.com/; ComponentLink2Description: Datasheet; ComponentLink2URL: http://www.infineon.com/dgdl/Datasheet_ICE2QR0665G_20110704_R20.pdf?folderId=db3a304412b407950112b408e8c90004&fileId=db3a304330f686060130fd2a8e477ecb; ComponentLink3Description: Package Specification; ComponentLink3URL: http://www.infineon.com/dgdl/Datasheet_ICE2QR0665G_20110704_R20.pdf?folderId=db3a304412b407950112b408e8c90004&fileId=db3a304330f686060130fd2a8e477ecb
footprint INF-PG-DSO-16_12_N (SOP, 16-Leads, Body 9.9x3.9mm, Pitch 1.27mm, IPC Medium Density)
footprint INF-PG-DSO-16_12_L (SOP, 16-Leads, Body 9.9x3.9mm, Pitch 1.27mm, IPC High Density)
footprint INF-PG-DSO-16_12_M (SOP, 16-Leads, Body 9.9x3.9mm, Pitch 1.27mm, IPC Low Density)
pins: 1 ZC (in) "Zero crossing", 2 FB (in) "Feedback", 3 NC "Not Connected", 4 CS (in) "Current Sense", 5 DRAIN (power) "650V1) CoolMOS(TM) Drain", 6 DRAIN (power) "650V1) CoolMOS(TM) Drain", 7 DRAIN (power) "650V1) CoolMOS(TM) Drain", 8 DRAIN (power) "650V1) CoolMOS(TM) Drain", 9 NC "Not Connected", 10 NC "Not Connected", 11 VCC (power) "Controller Supply Voltage", 12 GND (power) "Controller Ground"

## ICE2QR0665Z
designator U?
Off-Line SMPS Quasi-Resonant PWM Controller with Integrated 650 V CoolMOS and Startup Cell, 10.5 to 25 V, -25 to 130 degC, PG-DIP-7-1, Tube, Green; Manufacturer: Infineon; PartNumber: ICE2QR0665Z; ESD Protection (max): 2 kV; Frequency ( f ) Range: variable; Green: TRUE; Green Product: Lead Free; ICC (typ): 1.5 mA; ID (max): 2.5 A; PIN (max): 45 W; RDS (on) (typ): 0.65 Ohm; RthJA (max): 96 K/W; tf (typ): 30 ns; VCC (max): 25 V; VCC (min): 10.5 V; VDS (max): 650 V; DatasheetVersion: Rev. 2.1; PackageVersion: Rev. 02, 07/2011; PackageReference: PG-DIP-7-1; PackageDescription: 7-Pin Plastic (Green) Dual In-Line Package, 9.44 x 6.35 mm Body, 2.54 mm Pitch; Supplier 1: Mouser; Supplier Part Number 1: 726-ICE2QR0665Z; Halogen-free: TRUE; tr (typ): 30 ns; Mounting Technology: Through Hole; ComponentLink1Description: Manufacturer URL; ComponentLink1URL: http://www.infineon.com/; ComponentLink2Description: Datasheet; ComponentLink2URL: http://www.infineon.com/dgdl/Datasheet_ICE2QR0665Z_V21_20110830.pdf?folderId=db3a304412b407950112b408e8c90004&fileId=db3a30432ee77f32012eff5b378a1df1; ComponentLink3Description: Package Specification; ComponentLink3URL: http://www.infineon.com/dgdl/Datasheet_ICE3BR0680JZ_V21a_11Jan2012.pdf?folderId=db3a30431f848401011fcbf221ff04c3&fileId=db3a304329a0f6ee0129e8b5bf735b64
footprint INF-PG-DIP-7-1_A (DIP, 7-Leads, Body 9.44x6.35mm, Pitch 2.54mm)
pins: 1 ZC (in) "Zero Crossing", 2 FB (in) "Feedback", 3 CS (in) "Current Sense/ 650V CoolMOS(R) Source", 4 NC "Not Connected", 5 DRAIN (power) "650V CoolMOS(R) Drain", 7 VCC (power) "Controller Supply Voltage", 8 GND (power) "Controller Ground"

## ICE2QR0680Z
designator U?
Off-Line SMPS Quasi-Resonant PWM Controller with Integrated 800 V CoolMOS and Startup Cell, 10.5 to 25 V, -25 to 130 degC, PG-DIP-7-1, Tube, Green; Manufacturer: Infineon; PartNumber: ICE2QR0680Z; ESD Protection (max): 2 kV; Frequency ( f ) Range: variable; Green: TRUE; Green Product: Lead Free; ICC (typ): 1.5 mA; ID (max): 2.2 A; PIN (max): 57 W; RDS (on) (typ): 0.62 Ohm; RthJA (max): 80 K/W; tf (typ): 30 ns; VCC (max): 25 V; VCC (min): 10.5 V; VDS (max): 800 V; DatasheetVersion: Rev. 2.1; PackageVersion: Rev. 02, 07/2011; PackageReference: PG-DIP-7-1; PackageDescription: 7-Pin Plastic (Green) Dual In-Line Package, 9.44 x 6.35 mm Body, 2.54 mm Pitch; Supplier 1: Mouser; Supplier Part Number 1: 726-ICE2QR0680Z; Halogen-free: TRUE; tr (typ): 30 ns; Mounting Technology: Through Hole; ComponentLink1Description: Manufacturer URL; ComponentLink1URL: http://www.infineon.com/; ComponentLink2Description: Datasheet; ComponentLink2URL: http://www.infineon.com/dgdl/Datasheet_ICE2QR0680Z_V21_20110830.pdf?folderId=db3a304412b407950112b408e8c90004&fileId=db3a30432d081e66012d3090a9e83027; ComponentLink3Description: Package Specification; ComponentLink3URL: http://www.infineon.com/dgdl/Datasheet_ICE3BR0680JZ_V21a_11Jan2012.pdf?folderId=db3a30431f848401011fcbf221ff04c3&fileId=db3a304329a0f6ee0129e8b5bf735b64
footprint INF-PG-DIP-7-1_A (DIP, 7-Leads, Body 9.44x6.35mm, Pitch 2.54mm)
pins: 1 ZC (in) "Zero Crossing", 2 FB (in) "Feedback", 3 CS (in) "Current Sense", 4 NC "Not Connected", 5 DRAIN (power) "800V CoolMOS(R) Drain", 7 VCC (power) "Controller Supply Voltage", 8 GND (power) "Controller Ground"

## ICE2QR1065Z
designator U?
Off-Line SMPS Quasi-Resonant PWM Controller with Integrated 650 V CoolMOS and Startup Cell, 10.5 to 25 V, -25 to 130 degC, PG-DIP-7-1, Tube, Green; Manufacturer: Infineon; PartNumber: ICE2QR1065Z; ESD Protection (max): 2 kV; Frequency ( f ) Range: Variable; Green: TRUE; Green Product: Lead Free; ICC (typ): 1.5 mA; ID (max): 2 A; PIN (max): 41 W; RDS (on) (typ): 0.92 Ohm; RthJA (max): 96 K/W; tf (typ): 30 ns; VCC (max): 25 V; VCC (min): 10.5 V; VDS (max): 650 V; DatasheetVersion: Rev. 2.1; PackageVersion: Rev. 02, 07/2011; PackageReference: PG-DIP-7-1; PackageDescription: 7-Pin Plastic (Green) Dual In-Line Package, 9.44 x 6.35 mm Body, 2.54 mm Pitch; Supplier 1: Mouser; Supplier Part Number 1: 726-ICE2QR1065Z; Halogen-free: TRUE; tr (typ): 30 ns; Mounting Technology: Through Hole; ComponentLink1Description: Manufacturer URL; ComponentLink1URL: http://www.infineon.com/; ComponentLink2Description: Datasheet; ComponentLink2URL: http://www.infineon.com/dgdl/Datasheet_ICE2QR1065Z_V21_20110830.pdf?folderId=db3a304412b407950112b408e8c90004&fileId=db3a30432f91014f012fb488a0841644; ComponentLink3Description: Package Specification; ComponentLink3URL: http://www.infineon.com/dgdl/Datasheet_ICE3BR0680JZ_V21a_11Jan2012.pdf?folderId=db3a30431f848401011fcbf221ff04c3&fileId=db3a304329a0f6ee0129e8b5bf735b64
footprint INF-PG-DIP-7-1_A (DIP, 7-Leads, Body 9.44x6.35mm, Pitch 2.54mm)
pins: 1 ZC (in) "Zero Crossing", 2 FB (in) "Feedback", 3 CS (in) "Current Sense/ 650V CoolMOS(R) Source", 4 NC "Not Connected", 5 DRAIN (power) "650V CoolMOS(R) Drain", 7 VCC (power) "Controller Supply Voltage", 8 GND (power) "Controller Ground"

## ICE2QR1765
designator U?
Off-Line SMPS Quasi-Resonant PWM Controller with Integrated 650 V CoolMOS and Startup Cell, 10.5 to 25 V, -25 to 130 degC, PG-DIP-8, Tube, Green; Manufacturer: Infineon; PartNumber: ICE2QR1765; ESD Protection (max): 2 kV; Frequency ( f ) Range: Variable; Green: TRUE; Green Product: Lead Free; ICC (typ): 1.5 mA; ID (max): 1.5 A; PIN (max): 32.6 W; RDS (on) (typ): 1.7 Ohm; RthJA (max): 85 K/W; tf (typ): 30 ns; VCC (max): 25 V; VCC (min): 10.5 V; VDS (max): 650 V; DatasheetVersion: Rev. 2.2; PackageVersion: Rev. 02, 05/2012; PackageReference: PG-DIP-8; PackageDescription: 8-Pin Plastic (Green) Dual In-Line Package, 9.44 x 6.35 mm Body, 2.54 mm Pitch; Supplier 1: Mouser; Supplier Part Number 1: 726-ICE2QR1765; Supplier 2: Digi-Key; Supplier Part Number 2: ICE2QR1765-ND; Halogen-free: False; tr (typ): 30 ns; Mounting Technology: Through Hole; ComponentLink1Description: Manufacturer URL; ComponentLink1URL: http://www.infineon.com/; ComponentLink2Description: Datasheet; ComponentLink2URL: http://www.infineon.com/dgdl/Datasheet_ICE2QR1765_v22_20110830.pdf?folderId=db3a304412b407950112b4182a3d24f8&fileId=db3a304327b897500127e076c8354321; ComponentLink3Description: Package Specification; ComponentLink3URL: http://www.infineon.com/dgdl/Datasheet_CoolSET-F3_v22_30Aug2011.pdf?folderId=db3a304412b407950112b4182a3d24f8&fileId=db3a304412b407950112b428f6ba3f30
footprint INF-PG-DIP-8_A (DIP, 8-Leads, Body 9.435x7.875mm, Pitch 2.54mm)
pins: 1 ZC (in) "Zero Crossing", 2 FB (in) "FeedBack", 3 CS (in) "Current Sense/650V CoolMOS(R) Source", 4 DRAIN (power) "650V CoolMOS(R) Drain", 5 DRAIN (power) "650V CoolMOS(R) Drain", 6 NC "Not connected", 7 VCC (power) "Controller Supply Voltage", 8 GND (power) "Controller Ground"

## ICE2QR1765G
designator U?
Off-Line SMPS Quasi-Resonant PWM Controller with Integrated 650 V CoolMOS and Startup Cell, 10.5 to 25 V, -25 to 130 degC, PG-DSO-16/12, Reel, Green; Manufacturer: Infineon; PartNumber: ICE2QR1765G; ESD Protection (max): 2 kV; Frequency ( f ) Range: Variable; Green: TRUE; Green Product: Lead Free; ICC (typ): 1.5 mA; ID (max): 1.5 A; PIN (max): 28 W; RDS (on) (typ): 1.7 Ohm; RthJA (max): 110 K/W; tf (typ): 30 ns; VCC (max): 25 V; VCC (min): 10.5 V; VDS (max): 650 V; DatasheetVersion: Rev. 2.0; PackageReference: PG-DSO-16_12; PackageDescription: 16-Pin Plastic (Green) Dual Small Outline Package, 9.9 x 3.9 mm Body, 1.27 mm Pitch; Supplier 1: Mouser; Supplier Part Number 1: 726-ICE2QR1765G; Halogen-free: TRUE; tr (typ): 30 ns; Mounting Technology: Surface Mount; ComponentLink1Description: Manufacturer URL; ComponentLink1URL: http://www.infineon.com/; ComponentLink2Description: Datasheet; ComponentLink2URL: http://www.infineon.com/dgdl/Datasheet_ICE2QR1765G_20110311_R20.pdf?folderId=db3a304412b407950112b408e8c90004&fileId=db3a30432f29829e012f43b387321eeb; ComponentLink3Description: Package Specification; ComponentLink3URL: http://www.infineon.com/dgdl/Datasheet_ICE2QR0665G_20110704_R20.pdf?folderId=db3a304412b407950112b408e8c90004&fileId=db3a304330f686060130fd2a8e477ecb
footprint INF-PG-DSO-16_12_N (SOP, 16-Leads, Body 9.9x3.9mm, Pitch 1.27mm, IPC Medium Density)
footprint INF-PG-DSO-16_12_L (SOP, 16-Leads, Body 9.9x3.9mm, Pitch 1.27mm, IPC High Density)
footprint INF-PG-DSO-16_12_M (SOP, 16-Leads, Body 9.9x3.9mm, Pitch 1.27mm, IPC Low Density)
pins: 1 ZC (in) "Zero crossing", 2 FB (in) "Feedback", 3 NC "Not Connected", 4 CS (in) "Current Sense", 5 DRAIN (power) "650V CoolMOS(TM) Drain", 6 DRAIN (power) "650V CoolMOS(TM) Drain", 7 DRAIN (power) "650V CoolMOS(TM) Drain", 8 DRAIN (power) "650V CoolMOS(TM) Drain", 9 NC "Not Connected", 10 NC "Not Connected", 11 VCC (power) "Controller Supply Voltage", 12 GND (power) "Controller Ground"